# EAGLE library part POWER-BRICK-CONNECTOR-2X6 (library MotherboardParts2)
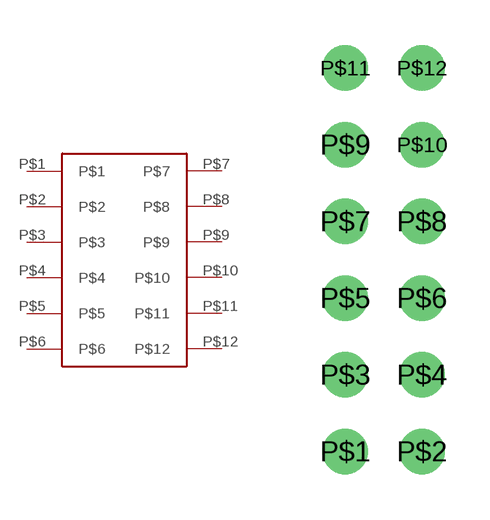
[diagram p0: symbol with the pads of POWER-BRICK-CONNECTOR-2X6; footprint POWER-BRICK-CONNECTOR-2X6]

Designator prefix -

## POWER-BRICK-CONNECTOR-2X6  [POWER-BRICK-CONNECTOR-2X6]
P$1  P$1
P$2  P$2
P$3  P$3
P$4  P$4
P$5  P$5
P$6  P$6
P$7  P$7
P$8  P$8
P$9  P$9
P$10  P$10
P$11  P$11
P$12  P$12

## Footprint POWER-BRICK-CONNECTOR-2X6 (pad centres in mm)
drill 1: P$1 -1.27,-6.35; P$2 1.27,-6.35; P$3 -1.27,-3.81; P$4 1.27,-3.81; P$5 -1.27,-1.27; P$6 1.27,-1.27; P$7 -1.27,1.27; P$8 1.27,1.27; P$9 -1.27,3.81; P$10 1.27,3.81; P$11 -1.27,6.35; P$12 1.27,6.35